# Altium footprint library Diodes_TH.PcbLib: 23 footprints (part 2 of 2)
Each footprint in its own frame and in the unit in brackets; x right, y up, seen from the top. Pads: shape width x height; smd on the part's side, far side on the other; paste and mask are expansions set on the pad; w line width, h text height; cw(c..) or ccw(c..) is an arc to the next point about the centre after c.
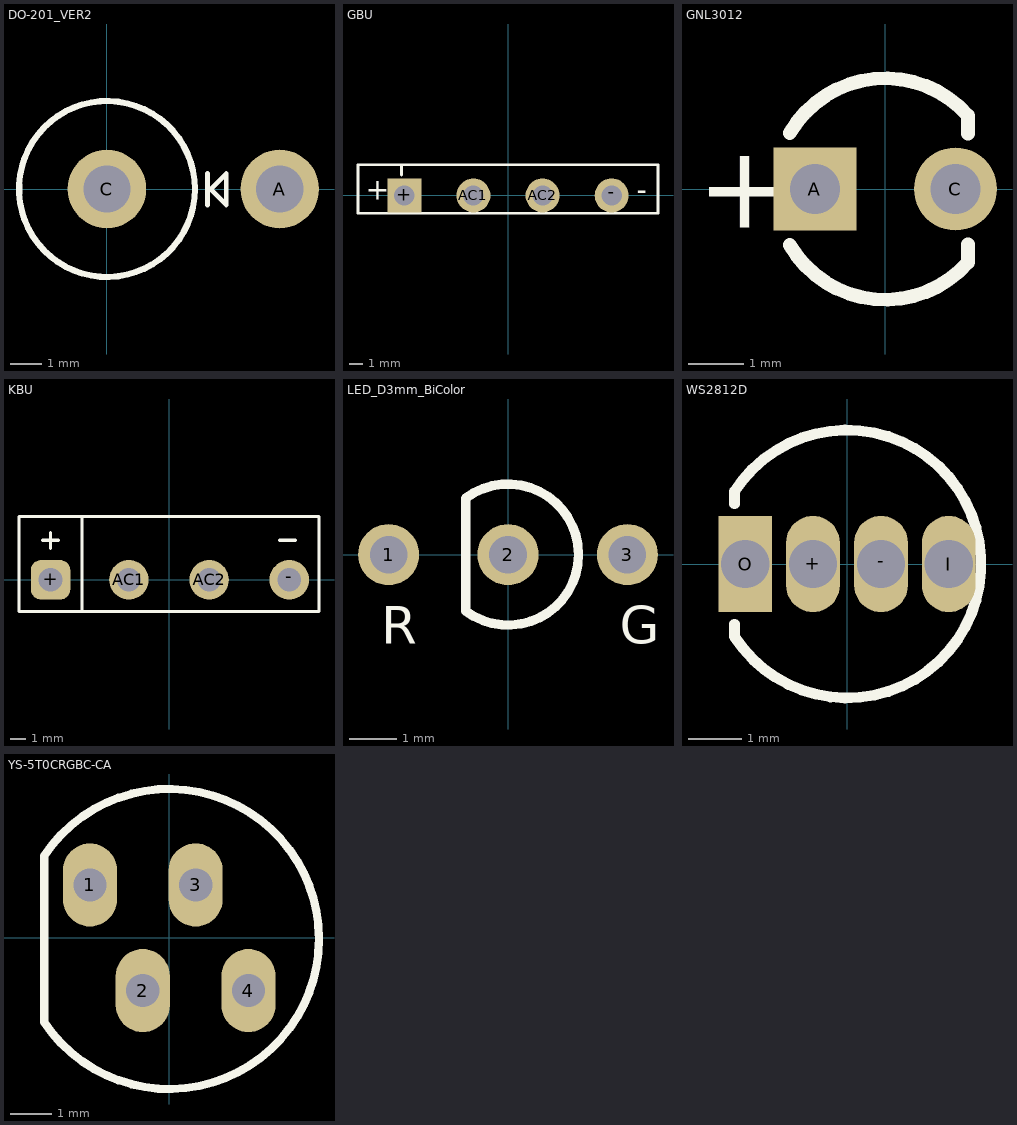
[diagram p1: the footprints below, top view; thin cyan lines are the x and y axes]

## DO-201_VER2 [mm]
pads (2):
  round 2.5 hole 1.5: A(5.5,0) C(0,0)
Top Overlay:
  circle w0.2: c0,0 r2.8
  lines w0.15: 3.2,-0.509 3.2,0.491 ; 3.2,-0.009 3.3,-0.009 ; 3.3,-0.009 3.8,-0.509 3.8,0.491 3.3,-0.009
3D body: height 3.5, standoff 2, extent -2.8,-2.8 2.8,2.8
3D body: height 5, standoff 3.5, extent -2.8,-2.8 2.8,2.8
3D body: height 11.5, standoff 5, extent -2.8,-2.8 2.8,2.8
3D body: height 14.4, standoff 13.6, extent 1.6,-0.4 4.1,0.4
3D body "Pin_0.8_arc_2mm_2.STEP": height 14.4, standoff 8, extent 3.9,-0.4 5.9,0.4
3D body: height 9, standoff -3, extent 5.1,-0.4 5.9,0.4
3D body: height 2, standoff -3, extent -0.399,-0.397 0.399,0.4
3D body "Pin_0.8_arc_2mm_2.STEP": height 14.4, standoff 8, extent -0.4,-0.4 1.6,0.4

## GBU [mm]
height 16
pads (4):
  rect 2.5x2.5 hole 1.5: +(-7.62,0)
  round 2.5 hole 1.5: -(7.62,0) AC1(-2.54,0) AC2(2.54,0)
Top Overlay:
  lines w0.2: -7.825,1.5 -7.825,2.25 ; -11.025,-1.3 11.025,-1.3 11.025,2.25 -11.025,2.25 -11.025,-1.3
  text "-" at 9.454,-0.308 h1.52
  text "+" at -10.446,-0.3 h1.52
3D body: height 2, standoff -3, extent -8.22,-0.25 -7.02,0.25
3D body: height 2, standoff -3, extent 7.02,-0.25 8.22,0.25
3D body: height 2, standoff -3, extent 1.94,-0.25 3.14,0.25
3D body: height 2, standoff -3, extent -3.14,-0.25 -1.94,0.25
3D body: height 15.35, standoff 2, extent -11.025,-1.3 -7.825,2.25
3D body: height 18.55, standoff 2, extent -7.825,-1.3 11.025,2.25

## GNL3012 [mm] "LED, d=3mm"
height 5.5
pads (2):
  rect 1.5x1.5 hole 0.9: A(-1.27,0)
  round 1.5 hole 0.9: C(1.27,0)
Top Overlay:
  lines w0.25: -1.724,-1.014 ccw(c0,0) 1.5,-1.323 ; -1.724,1.014 cw(c0,0) 1.5,1.323
  lines w0.254: 1.5,-1.323 1.5,-1 ; 1.5,1 1.5,1.323
  text "+" at -3.4,-0.7 h1.5
3D body: height 0, standoff -2.5, extent -1.52,-0.25 -1.02,0.25
3D body: height 0, standoff -2.5, extent 1.02,-0.25 1.52,0.25
3D body "LED_3mm_without_pins.STEP": height 5.3, standoff 0, extent -1.95,-1.947 1.603,1.947

## KBU [mm]
height 16
pads (4):
  rrect50% 2.5x2.5 hole 1.5: +(-7.5,0)
  round 2.5 hole 1.5: -(7.62,0) AC1(-2.54,0) AC2(2.54,0)
Top Overlay:
  lines w0.2: -8,2.5 -7,2.5 ; -7.5,2 -7.5,3 ; -5.5,-2 -5.5,4 ; 7,2.5 8,2.5 ; -9.5,-2 9.5,-2 9.5,4 -9.5,4 -9.5,-2
3D body "KBL-1.step": height 15.85, standoff -4.4, extent -9.5,-2.125 9.5,4.125

## LED_D3mm_BiColor [mm]
pads (3):
  round 1.3 hole 0.8: 1(-2.54,0) 2(0,0) 3(2.54,0)
Top Overlay:
  lines w0.2: -0.9,-1.2 ccw(c0,0) -0.9,1.2 -0.9,-1.2
  text "R" at -2.7,-1.9 h0.8
  text "G" at 2.38,-1.9 h0.8
3D body "3mmBiColorLED.STEP": height 9.21, standoff -0.83, extent -2.794,-2.025 2.794,2.025

## WS2812D [mm]
height 8
pads (4):
  oval 1x1.8 hole 0.9: +(-0.635,0) -(0.635,0) I(1.9,0)
  rect 1x1.8 hole 0.9: O(-1.9,0)
Top Overlay:
  lines w0.2: -2.103,1.352 cw(c0,0) -2.102,-1.353 ; -2.1,-1.352 -2.1,-1.125 ; -2.1,1.125 -2.1,1.352
3D body: height 12, standoff 0, extent -4,-3.997 4,3.997

## YS-5T0CRGBC-CA [mm] "RGB светодиод c общим анодом (ф.SHEN ZHEN YS LED LIGHTING) www.yeshanled.com"
height 10
pads (4):
  oval 1.3x2 hole 0.8: 1(-1.905,1.27) 2(-0.635,-1.27) 3(0.635,1.27) 4(1.905,-1.27)
Top Overlay:
  lines w0.2: -3.005,-2.03 ccw(c-0.005,-0.03) -3.005,1.97 -3.005,-2.03